# Altium footprint library MAXIM WLP-9 1.2X1.2MM.PCBLIB: 1 footprints
Each footprint in its own frame and in the unit in brackets; x right, y up, seen from the top. Pads: shape width x height; smd on the part's side, far side on the other; paste and mask are expansions set on the pad; w line width, h text height; cw(c..) or ccw(c..) is an arc to the next point about the centre after c.
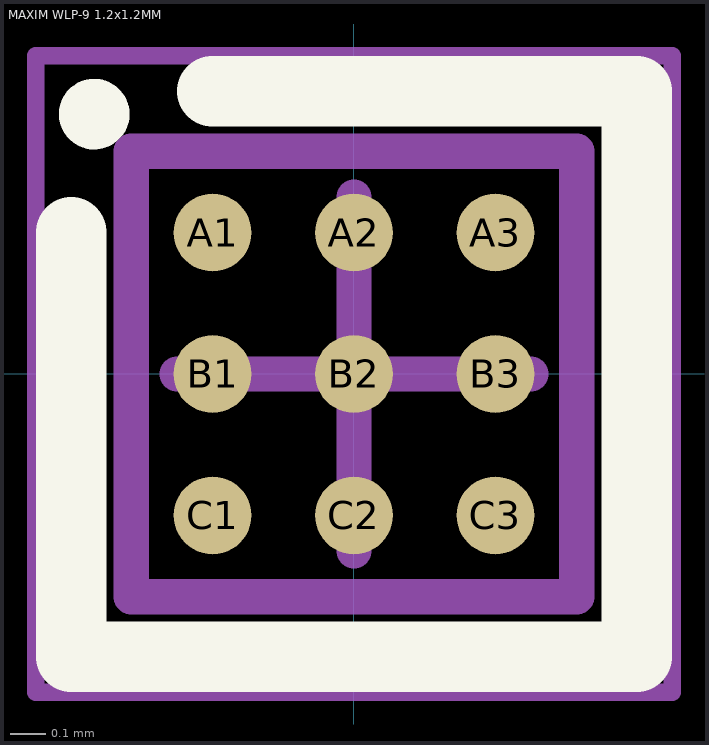
[diagram p0: the footprint, top view; thin cyan lines are the x and y axes]

## MAXIM WLP-9 1.2x1.2MM [mm] "WLP, 9-Leads, Body 1.26x1.26mmx0.64mm, Pitch 0.40mm"
height 0.64
pads (9):
  round 0.22 smd: A1(-0.4,0.4) A2(0,0.4) A3(0.4,0.4) B1(-0.4,0) B2(0,0) B3(0.4,0) C1(-0.4,-0.4) C2(0,-0.4) C3(0.4,-0.4)
Top Overlay:
  circle w0.1: c-0.735,0.735 r0.05
  lines w0.2: -0.8,0.4 -0.8,-0.8 0.8,-0.8 0.8,0.8 -0.4,0.8
Mechanical 13:
  lines w0.1: -0.63,-0.63 0.63,-0.63 0.63,0.63 -0.63,0.63 -0.63,-0.63
Mechanical 15:
  lines w0.05: -0.9,-0.9 0.9,-0.9 0.9,0.9 -0.9,0.9 -0.9,-0.9
  lines w0.1: -0.5,0 0.5,0 ; 0,-0.5 0,0.5
3D body: height 0.64, standoff 0.16, extent -0.63,-0.63 0.63,0.63